# Altium footprint library QFN.PcbLib: 4 footprints
Each footprint in its own frame and in the unit in brackets; x right, y up, seen from the top. Pads: shape width x height; smd on the part's side, far side on the other; paste and mask are expansions set on the pad; w line width, h text height; cw(c..) or ccw(c..) is an arc to the next point about the centre after c.
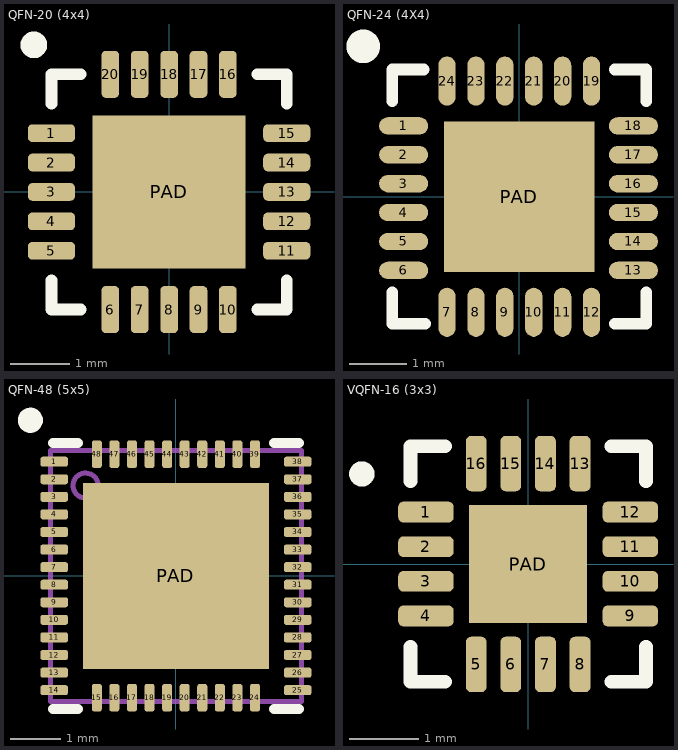
[diagram p0: the footprints below, top view; thin cyan lines are the x and y axes]

## QFN-20 (4x4) [mm]
pads (21):
  rrect50% 0.8x0.3 smd: 1(-2,1) 2(-2,0.5) 3(-2,0) 4(-2,-0.5) 5(-2,-1) 11(2,-1) 12(2,-0.5) 13(2,0) 14(2,0.5) 15(2,1)
  rrect50% 0.3x0.8 smd: 6(-1,-2) 7(-0.5,-2) 8(0,-2) 9(0.5,-2) 10(1,-2) 16(1,2) 17(0.5,2) 18(0,2) 19(-0.5,2) 20(-1,2)
  rect 2.6x2.6 smd: PAD(0,0)
Top Overlay:
  circle w0.254: c-2.3,2.5 r0.1
  lines w0.2: -2,-1.5 -2,-2 -1.5,-2 ; -2,1.5 -2,2 -1.5,2 ; 1.5,-2 2,-2 2,-1.5 ; 1.5,2 2,2 2,1.5
Top Solder:
  rectangle: -2.503,-1.25 -1.5,1.249
  rectangle: -1.25,-2.5 1.25,-1.5
  rectangle: 1.5,-1.25 2.5,1.275
  rectangle: -1.25,1.5 1.25,2.5
Mechanical 15:
  lines w0.05: -0.25,0 0.25,0 ; 0,-0.25 0,0.25
3D body "QFN20_4x4.stp": height 0.75, standoff -0.01, extent -2,-2 2,2

## QFN-24 (4X4) [mm]
pads (25):
  oval 0.85x0.3 smd: 1(-2,1.225) 2(-2,0.725) 3(-2,0.225) 4(-2,-0.275) 5(-2,-0.775) 6(-2,-1.275) 13(1.975,-1.275) 14(1.975,-0.775) 15(1.975,-0.275) 16(1.975,0.225) 17(1.975,0.725) 18(1.975,1.225)
  oval 0.3x0.85 smd: 7(-1.25,-2) 8(-0.75,-2) 9(-0.25,-2) 10(0.25,-2) 11(0.75,-2) 12(1.25,-2) 19(1.25,2) 20(0.75,2) 21(0.25,2) 22(-0.25,2) 23(-0.75,2) 24(-1.25,2)
  rect 2.6x2.6 smd: PAD(0,0)
Top Overlay:
  circle w0.4: c-2.7,2.6 r0.09
  lines w0.2: -2.2,-1.65 -2.2,-2.2 -1.625,-2.2 ; -2.2,1.65 -2.2,2.2 -1.65,2.2 ; 1.65,-2.2 2.2,-2.2 2.2,-1.65 ; 1.65,2.2 2.2,2.2 2.2,1.65
3D body "QFN 24 4x4.step": height 0.9, standoff 0, extent -2.002,-2.002 2.002,2.002

## QFN-48 (5x5) [mm]
height 2
pads (49):
  rrect50% 0.55x0.2 smd paste-0.125 mask+0.051: 1(-2.425,2.275) 2(-2.425,1.925) 3(-2.425,1.575) 4(-2.425,1.225) 5(-2.425,0.875) 6(-2.425,0.525) 7(-2.425,0.175) 8(-2.425,-0.175) 9(-2.425,-0.525) 10(-2.425,-0.875) 11(-2.425,-1.225) 12(-2.425,-1.575) 13(-2.425,-1.925) 14(-2.425,-2.275) 25(2.425,-2.275) 26(2.425,-1.925) 27(2.425,-1.575) 28(2.425,-1.225) 29(2.425,-0.875) 30(2.425,-0.525) 31(2.425,-0.175) 32(2.425,0.175) 33(2.425,0.525) 34(2.425,0.875) 35(2.425,1.225) 36(2.425,1.575) 37(2.425,1.925) 38(2.425,2.275)
  rrect50% 0.2x0.55 smd paste-0.125 mask+0.051: 15(-1.575,-2.425) 16(-1.225,-2.425) 17(-0.875,-2.425) 18(-0.525,-2.425) 19(-0.175,-2.425) 20(0.175,-2.425) 21(0.525,-2.425) 22(0.875,-2.425) 23(1.225,-2.425) 24(1.575,-2.425) 39(1.575,2.425) 40(1.225,2.425) 41(0.875,2.425) 42(0.525,2.425) 43(0.175,2.425) 44(-0.175,2.425) 45(-0.525,2.425) 46(-0.875,2.425) 47(-1.225,2.425) 48(-1.575,2.425)
  rect 3.7x3.7 smd paste-1.8 mask+0.051: PAD(0,0)
Top Overlay:
  circle w0.25: c-2.9,3.1 r0.125
  lines w0.2: -2.45,-2.65 -1.95,-2.65 ; -2.45,2.65 -1.95,2.65 ; 1.95,-2.65 2.45,-2.65 ; 1.95,2.65 2.45,2.65
Top Solder:
  rectangle: -2.75,-2.425 -2.1,2.425
  rectangle: -1.725,-2.75 1.725,-2.1
  rectangle: 2.1,-2.425 2.75,2.425
  rectangle: -1.725,2.1 1.725,2.75
Mechanical 13:
  circle w0.1: c-1.8,1.8 r0.25
  lines w0.1: -2.5,-2.5 2.5,-2.5 2.5,2.5 -2.5,2.5 -2.5,-2.5
Mechanical 15:
  lines w0.05: -0.25,0 0.25,0 ; 0,-0.25 0,0.25
3D body "QFN-48 (5x5).step": height 0.55, standoff -0.02, extent -2.51,-2.51 2.51,2.51

## VQFN-16 (3x3) [mm]
pads (17):
  rrect50% 0.8x0.3 smd: 1(-1.475,0.75) 2(-1.475,0.25) 3(-1.475,-0.25) 4(-1.475,-0.75) 9(1.475,-0.75) 10(1.475,-0.25) 11(1.475,0.25) 12(1.475,0.75)
  rrect50% 0.3x0.8 smd: 5(-0.75,-1.45) 6(-0.25,-1.45) 7(0.25,-1.45) 8(0.75,-1.45) 13(0.75,1.45) 14(0.25,1.45) 15(-0.25,1.45) 16(-0.75,1.45)
  rect 1.7x1.7 smd: PAD(0,0)
Top Overlay:
  circle w0.254: c-2.4,1.3 r0.056
  lines w0.2: -1.7,-1.2 -1.7,-1.7 -1.2,-1.7 ; -1.7,1.2 -1.7,1.7 -1.2,1.7 ; 1.2,-1.7 1.7,-1.7 1.7,-1.2 ; 1.2,1.7 1.7,1.7 1.7,1.2
3D body "User Library-16VQFN3x3.STEP": height 0.97, standoff 0, extent -1.51,-1.51 1.51,1.51